# Altium footprint library QFN-18(3.0X4.0).PcbLib: 1 footprints
Each footprint in its own frame and in the unit in brackets; x right, y up, seen from the top. Pads: shape width x height; smd on the part's side, far side on the other; paste and mask are expansions set on the pad; w line width, h text height; cw(c..) or ccw(c..) is an arc to the next point about the centre after c.
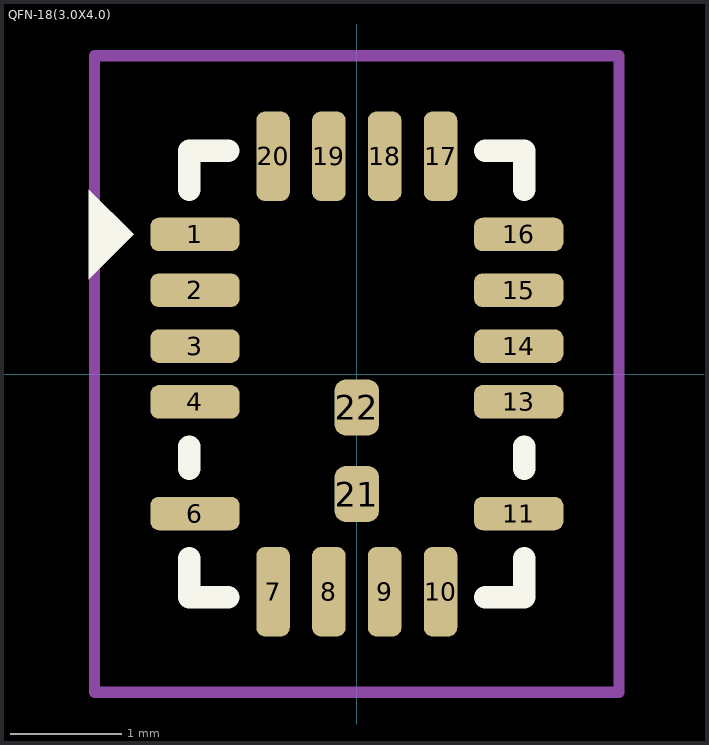
[diagram p0: the footprint, top view; thin cyan lines are the x and y axes]

## QFN-18(3.0X4.0) [mm]
pads (20):
  rrect50% 0.8x0.3 smd: 1(-1.45,1.25) 2(-1.45,0.75) 3(-1.45,0.25) 4(-1.45,-0.25) 6(-1.45,-1.25) 11(1.45,-1.25) 13(1.45,-0.25) 14(1.45,0.25) 15(1.45,0.75) 16(1.45,1.25)
  rrect50% 0.3x0.8 smd: 7(-0.75,-1.95) 8(-0.25,-1.95) 9(0.25,-1.95) 10(0.75,-1.95) 17(0.75,1.95) 18(0.25,1.95) 19(-0.25,1.95) 20(-0.75,1.95)
  rrect50% 0.4x0.5 smd: 21(0,-1.075) 22(0,-0.3)
Top Overlay:
  region: -2.4,0.85 -2.4,1.65 -2,1.25
  lines w0.2: -1.5,-1.65 -1.5,-2 -1.15,-2 ; -1.5,-0.85 -1.5,-0.65 ; -1.5,1.65 -1.5,2 -1.15,2 ; 1.15,-2 1.5,-2 1.5,-1.65 ; 1.15,2 1.5,2 1.5,1.65 ; 1.5,-0.85 1.5,-0.65
Top Courtyard:
  lines w0.1: -2.35,-2.85 -2.35,2.85 2.35,2.85 2.35,-2.85 -2.35,-2.85
3D body "IC_Linear_Technologies_LT8641EUDC#PBF_eec.STEP": height 0.75, standoff 0, extent -1.5,-2 1.5,2